# Altium schematic symbol library KMDGX-8S-N.SchLib: 1 symbol
Pins are listed as number, name and electrical type; pins without a type are passive.

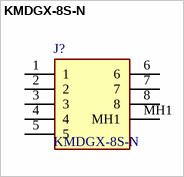
[diagram p0: symbol KMDGX-8S-N]

## KMDGX-8S-N
designator J?
Circular DIN Connectors 8P R/A NO SHIELD GOLD PLATED; Manufacturer_Name: Kycon; Geometry.Height: 13mm; Mouser Part Number: 806-KMDGX-8S-N; Mouser Price/Stock: https://www.mouser.com/Search/Refine.aspx?Keyword=806-KMDGX-8S-N; Manufacturer_Part_Number: KMDGX-8S-N; Datasheet Link: https://componentsearchengine.com/Datasheets/1/KMDGX-8S-N.pdf
footprint KMDGX8SN
pins: 1, 2, 3, 4, 5, 6, 7, 8, MH1